# Altium footprint library Custom Components.PcbLib: 4 footprints
Each footprint in its own frame and in the unit in brackets; x right, y up, seen from the top. Pads: shape width x height; smd on the part's side, far side on the other; paste and mask are expansions set on the pad; w line width, h text height; cw(c..) or ccw(c..) is an arc to the next point about the centre after c.
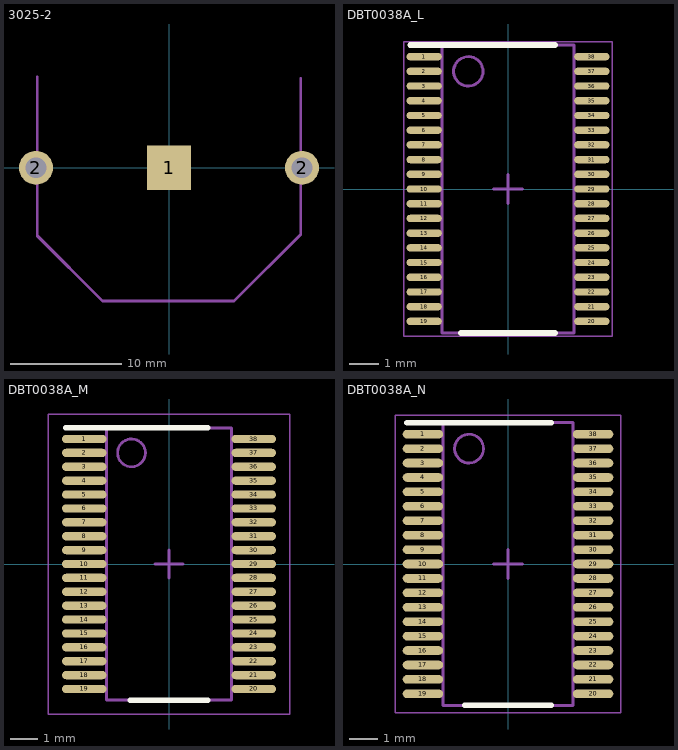
[diagram p0: the footprints below, top view; thin cyan lines are the x and y axes]

## 3025-2 [mil] "BATTERY RETNR COIN 2 CELL PC PIN"
height 295
pads (3):
  rect 156x156 smd: 1(0,0)
  round 120 hole 73: 2(-469.5,0) 2(469.5,0)
Mechanical 1:
  lines w10: -465,320 -465,-240 -235,-470 230,-470 465,-235 465,315
3D body "keystone-PN3025-2.step": height 326.52, standoff -75.04, extent -495,-538 507.84,338

## DBT0038A_L [mm]
pads (38):
  oval 1.2x0.25 smd paste+0 mask+0: 1(-2.85,4.5) 2(-2.85,4) 3(-2.85,3.5) 4(-2.85,3) 5(-2.85,2.5) 6(-2.85,2) 7(-2.85,1.5) 8(-2.85,1) 9(-2.85,0.5) 10(-2.85,0) 11(-2.85,-0.5) 12(-2.85,-1) 13(-2.85,-1.5) 14(-2.85,-2) 15(-2.85,-2.5) 16(-2.85,-3) 17(-2.85,-3.5) 18(-2.85,-4) 19(-2.85,-4.5) 20(2.85,-4.5) 21(2.85,-4) 22(2.85,-3.5) 23(2.85,-3) 24(2.85,-2.5) 25(2.85,-2) 26(2.85,-1.5) 27(2.85,-1) 28(2.85,-0.5) 29(2.85,0) 30(2.85,0.5) 31(2.85,1) 32(2.85,1.5) 33(2.85,2) 34(2.85,2.5) 35(2.85,3) 36(2.85,3.5) 37(2.85,4) 38(2.85,4.5)
Top Overlay:
  lines w0.2: -3.325,4.9 1.6,4.9 ; -1.6,-4.9 1.6,-4.9
Mechanical 13:
  circle w0.1: c-1.35,4 r0.5
  lines w0.1: -2.25,-4.9 2.25,-4.9 2.25,4.9 -2.25,4.9 -2.25,-4.9
  text ".Designator" at -1.854,-1.143 h1.27
Mechanical 15:
  lines w0.05: -3.55,-5 -3.55,5 3.55,5 3.55,-5 -3.55,-5
  lines w0.1: -0.5,0 0.5,0 ; 0,-0.5 0,0.5
3D body: height 0.25, standoff 0, extent 0,0 0.254,0.254

## DBT0038A_M [mm]
pads (38):
  oval 1.6x0.3 smd paste+0 mask+0: 1(-3.05,4.5) 2(-3.05,4) 3(-3.05,3.5) 4(-3.05,3) 5(-3.05,2.5) 6(-3.05,2) 7(-3.05,1.5) 8(-3.05,1) 9(-3.05,0.5) 10(-3.05,0) 11(-3.05,-0.5) 12(-3.05,-1) 13(-3.05,-1.5) 14(-3.05,-2) 15(-3.05,-2.5) 16(-3.05,-3) 17(-3.05,-3.5) 18(-3.05,-4) 19(-3.05,-4.5) 20(3.05,-4.5) 21(3.05,-4) 22(3.05,-3.5) 23(3.05,-3) 24(3.05,-2.5) 25(3.05,-2) 26(3.05,-1.5) 27(3.05,-1) 28(3.05,-0.5) 29(3.05,0) 30(3.05,0.5) 31(3.05,1) 32(3.05,1.5) 33(3.05,2) 34(3.05,2.5) 35(3.05,3) 36(3.05,3.5) 37(3.05,4) 38(3.05,4.5)
Top Overlay:
  lines w0.2: -3.725,4.9 1.4,4.9 ; -1.4,-4.9 1.4,-4.9
Mechanical 13:
  circle w0.1: c-1.35,4 r0.5
  lines w0.1: -2.25,-4.9 -2.25,4.9 2.25,4.9 2.25,-4.9 -2.25,-4.9
  text ".Designator" at -1.854,-1.143 h1.27
Mechanical 15:
  lines w0.05: -4.35,-5.4 4.35,-5.4 4.35,5.4 -4.35,5.4 -4.35,-5.4
  lines w0.1: -0.5,0 0.5,0 ; 0,-0.5 0,0.5
3D body: height 0.25, standoff 0, extent 0,0 0.254,0.254

## DBT0038A_N [mm]
pads (38):
  oval 1.4x0.3 smd paste+0 mask+0: 1(-2.95,4.5) 2(-2.95,4) 3(-2.95,3.5) 4(-2.95,3) 5(-2.95,2.5) 6(-2.95,2) 7(-2.95,1.5) 8(-2.95,1) 9(-2.95,0.5) 10(-2.95,0) 11(-2.95,-0.5) 12(-2.95,-1) 13(-2.95,-1.5) 14(-2.95,-2) 15(-2.95,-2.5) 16(-2.95,-3) 17(-2.95,-3.5) 18(-2.95,-4) 19(-2.95,-4.5) 20(2.95,-4.5) 21(2.95,-4) 22(2.95,-3.5) 23(2.95,-3) 24(2.95,-2.5) 25(2.95,-2) 26(2.95,-1.5) 27(2.95,-1) 28(2.95,-0.5) 29(2.95,0) 30(2.95,0.5) 31(2.95,1) 32(2.95,1.5) 33(2.95,2) 34(2.95,2.5) 35(2.95,3) 36(2.95,3.5) 37(2.95,4) 38(2.95,4.5)
Top Overlay:
  lines w0.2: -3.5,4.9 1.5,4.9 ; -1.5,-4.9 1.5,-4.9
Mechanical 13:
  circle w0.1: c-1.35,4 r0.5
  lines w0.1: -2.25,-4.9 -2.25,4.9 2.25,4.9 2.25,-4.9 -2.25,-4.9
  text ".Designator" at -1.854,-1.143 h1.27
Mechanical 15:
  lines w0.05: -3.9,-5.15 -3.9,5.15 3.9,5.15 3.9,-5.15 -3.9,-5.15
  lines w0.1: -0.5,0 0.5,0 ; 0,-0.5 0,0.5
3D body: height 0.25, standoff 0, extent 0,0 0.254,0.254